# Altium schematic symbol library PRTR5V0U2X.SchLib: 1 symbol
Pins are listed as number, name and electrical type; pins without a type are passive.

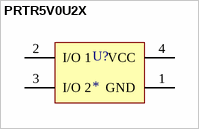
[diagram p0: symbol PRTR5V0U2X]

## PRTR5V0U2X
designator U?
Ultra low capacitance double rail-to-rail ESD protection diode; Manufacturer: NXP; Part No.: PRTR5V0U2X; Vendor: Mouser; Price Est.: $0.60
footprint SOT143B (Footprint not found)
pins: 1 GND, 2 I/O 1, 3 I/O 2, 4 VCC